# Altium footprint library Fuse.PcbLib: 1 footprints
Each footprint in its own frame and in the unit in brackets; x right, y up, seen from the top. Pads: shape width x height; smd on the part's side, far side on the other; paste and mask are expansions set on the pad; w line width, h text height; cw(c..) or ccw(c..) is an arc to the next point about the centre after c.
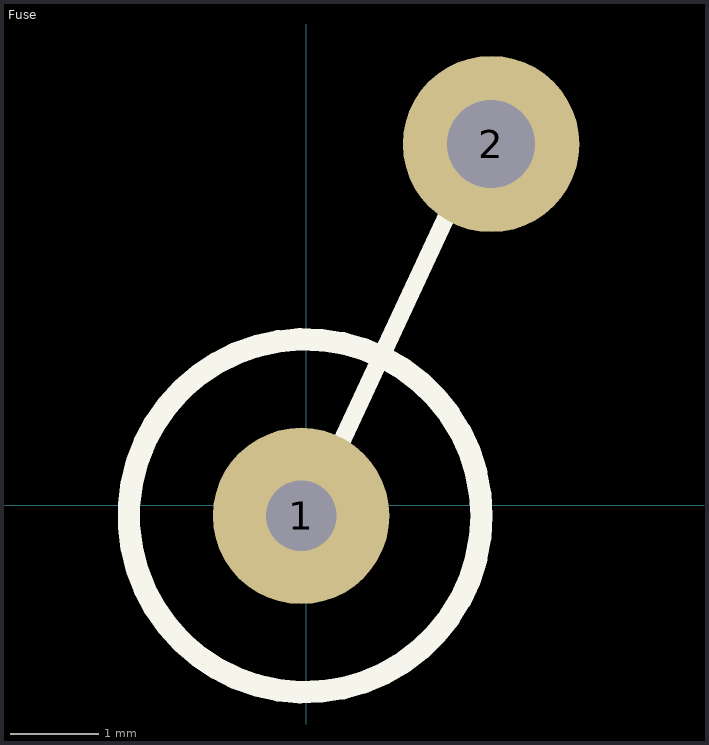
[diagram p0: the footprint, top view; thin cyan lines are the x and y axes]

## Fuse [mm]
pads (2):
  round 2 hole 0.8: 1(-0.055,-0.118)
  round 2 hole 1: 2(2.098,4.097)
Top Overlay:
  circle w0.254: c-0.01,-0.117 r2
  lines w0.2: 0.312,0.528 1.69,3.482